# Altium footprint library jetson-orin-baseboard.PcbLib: 71 footprints (part 2 of 5)
Each footprint in its own frame and in the unit in brackets; x right, y up, seen from the top. Pads: shape width x height; smd on the part's side, far side on the other; paste and mask are expansions set on the pad; w line width, h text height; cw(c..) or ccw(c..) is an arc to the next point about the centre after c.
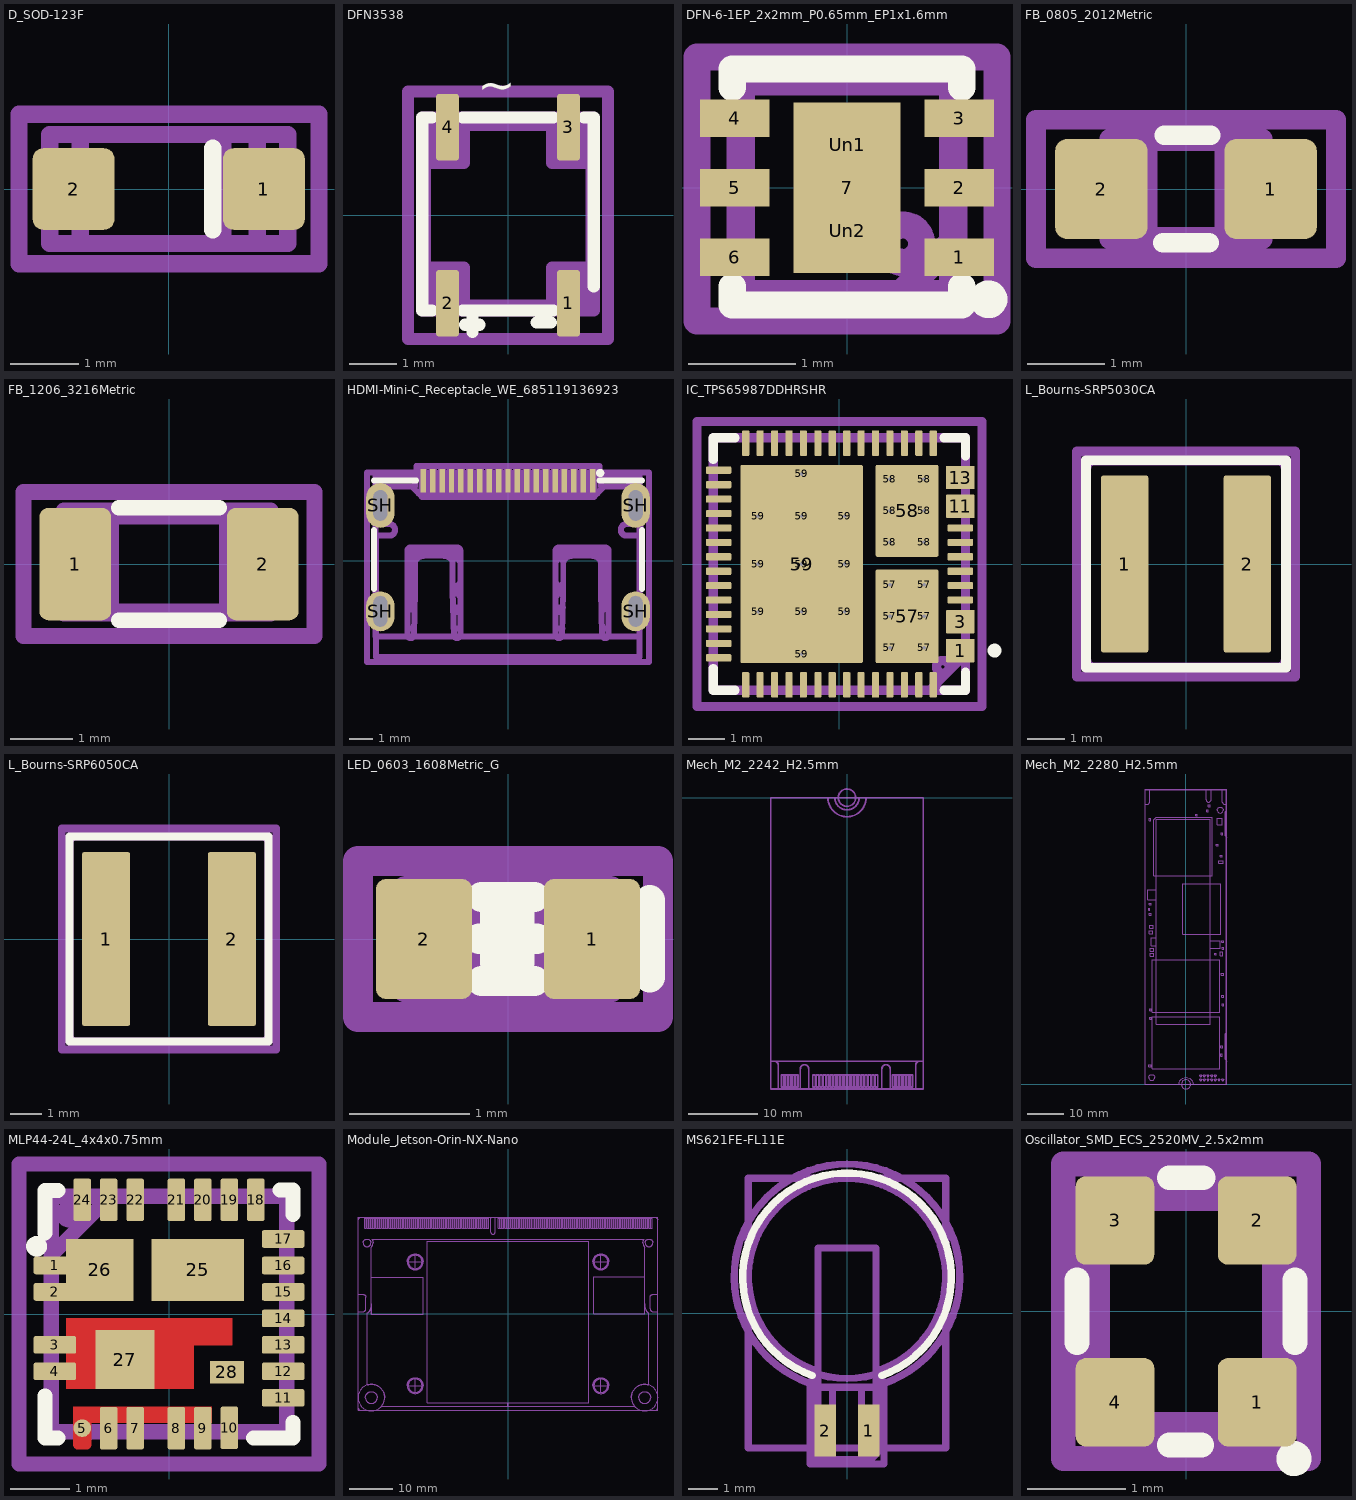
[diagram p1: the footprints below, top view; thin cyan lines are the x and y axes]

## D_SOD-123F [mm]
pads (2):
  rrect25% 1.2x1.2 smd mask+0: 1(1.401,0) 2(-1.398,0)
Top Overlay:
  lines w0.254: 0.65,-0.6 0.65,0.6
Mechanical 1:
  lines w0.254: -1.3,-0.327 -1.3,-0.726 -1.3,-0.729 -1.3,-0.733 -1.298,-0.736 -1.298,-0.74 -1.298,-0.743 -1.296,-0.747 -1.296,-0.75 -1.294,-0.754 -1.292,-0.757 -1.29,-0.76 -1.288,-0.763 -1.286,-0.767 -1.284,-0.771 -1.282,-0.774 -1.28,-0.777 -1.277,-0.779 -1.275,-0.782 -1.271,-0.784 -1.269,-0.787 -1.265,-0.789 -1.261,-0.791 -1.259,-0.793 -1.255,-0.795 -1.253,-0.796 -1.249,-0.798 -1.245,-0.799 -1.241,-0.8 -1.239,-0.801 -1.235,-0.801 -1.231,-0.802 -1.227,-0.802 -1.225,-0.802 1.226,-0.802 1.23,-0.802 1.234,-0.802 1.236,-0.801 1.24,-0.801 1.244,-0.8 1.248,-0.799 1.25,-0.798 1.254,-0.796 1.258,-0.795 1.26,-0.793 1.264,-0.791 1.268,-0.789 1.27,-0.787 1.274,-0.784 1.276,-0.782 1.278,-0.779 1.281,-0.777 1.283,-0.774 1.287,-0.771 1.289,-0.767 1.291,-0.763 1.293,-0.76 1.295,-0.757 1.295,-0.754 1.297,-0.75 1.299,-0.747 1.299,-0.743 1.301,-0.74 1.301,-0.736 1.301,-0.733 1.301,-0.729 1.301,-0.726 1.301,-0.327 ; -1.3,0.325 -1.3,0.724 -1.3,0.727 -1.3,0.731 -1.298,0.734 -1.298,0.738 -1.298,0.741 -1.296,0.745 -1.296,0.748 -1.294,0.752 -1.292,0.755 -1.29,0.758 -1.288,0.761 -1.286,0.765 -1.284,0.769 -1.282,0.772 -1.28,0.775 -1.277,0.777 -1.275,0.78 -1.271,0.782 -1.269,0.785 -1.265,0.787 -1.261,0.789 -1.259,0.791 -1.255,0.793 -1.253,0.794 -1.249,0.796 -1.245,0.797 -1.241,0.798 -1.239,0.799 -1.235,0.799 -1.231,0.8 -1.227,0.8 -1.225,0.8 1.226,0.8 1.23,0.8 1.234,0.8 1.236,0.799 1.24,0.799 1.244,0.798 1.248,0.797 1.25,0.796 1.254,0.794 1.258,0.793 1.26,0.791 1.264,0.789 1.268,0.787 1.27,0.785 1.274,0.782 1.276,0.78 1.278,0.777 1.281,0.775 1.283,0.772 1.287,0.769 1.289,0.765 1.291,0.761 1.293,0.758 1.295,0.755 1.295,0.752 1.297,0.748 1.299,0.745 1.299,0.741 1.301,0.738 1.301,0.734 1.301,0.731 1.301,0.727 1.301,0.724 1.301,0.325 ; -1.749,-0.327 -1.749,0.325 -1.282,0.325 -1.282,-0.327 -1.749,-0.327 ; 1.283,-0.327 1.283,0.325 1.75,0.325 1.75,-0.327 1.283,-0.327
Mechanical 5:
  lines w0.254: -1.749,-0.802 -1.749,0.8 1.75,0.8 1.75,-0.802 -1.749,-0.802
Mechanical 11:
  lines w0.254: 0.8,-0.8 0.8,0.8 ; -1.749,-0.802 -1.749,0.8 1.75,0.8 1.75,-0.802 -1.749,-0.802
  text "Author: Antmicro" at 2.052,5.515 h0.7
  text "License: Apache-2.0" at 2.052,6.833 h0.7
  text "'.Designator'" at 2.052,4.298 h0.7
Mechanical 16:
  lines w0.254: -2.2,-1.1 -2.2,1.1 2.21,1.1 2.21,-1.1 -2.2,-1.1

## DFN3538 [mm]
pads (4):
  rrect25% 0.48x1.4 smd mask+0: 1(1.27,-1.85) 2(-1.27,-1.85) 3(1.27,1.85) 4(-1.27,1.85)
Top Overlay:
  lines w0.254: -1.6,-2 -1.8,-2 -1.8,2.05 -1.6,2.05 ; -0.95,-2 0.95,-2 ; -0.95,2.05 0.95,2.05 ; -0.9,-2.301 -0.598,-2.301 ; -0.748,-2.452 -0.748,-2.15 ; 0.6,-2.25 0.902,-2.25 ; 1.6,2.05 1.8,2.05 1.8,-1.5
  text "~" at 0.16,3 h0.7
Mechanical 1:
  drawing of 284 lines, arcs and shapes, not listed
Mechanical 5:
  lines w0.254: -1.75,-1.9 -1.75,1.9 1.75,1.9 1.75,-1.9 -1.75,-1.9
Mechanical 11:
  lines w0.254: 1.051,-2 1.801,-1.25 ; -1.8,-2 -1.8,2.048 1.8,2.048 1.8,-2 -1.8,-2
  text "'.Designator'" at 1.95,5.099 h0.7
  text "License: Apache-2.0" at 1.95,7.232 h0.7
  text "Author: Antmicro" at 1.95,6.116 h0.7
Mechanical 16:
  lines w0.254: -2.1,-2.6 -2.1,2.6 2.1,2.6 2.1,-2.6 -2.1,-2.6

## DFN-6-1EP_2x2mm_P0.65mm_EP1x1.6mm [mm]
pads (9):
  rect 0.65x0.35 smd mask+0: 1(1.051,-0.652) 2(1.051,0) 3(1.051,0.65) 4(-1.05,0.65) 5(-1.05,0) 6(-1.05,-0.652)
  rect 1x1.6 smd paste-1.6 mask+0: 7(0,0)
  rect 0.82x0.63 on Top Paste mask-0.82: Un1(0,0.4) Un2(0,-0.402)
Top Overlay:
  circle w0.254: c1.325,-1.046 r0.05
  region: 1.287,-1.007 1.271,-1.046 1.287,-1.084 1.325,-1.1 1.363,-1.084 1.379,-1.046 1.363,-1.007 1.325,-0.992
  lines w0.254: -1.075,-0.925 -1.075,-1.1 1.075,-1.1 1.075,-0.925 ; -1.075,0.937 -1.075,1.112 1.075,1.112 1.075,0.937
Mechanical 1:
  circle w0.254: c0.525,-0.525 r0.175
  lines w0.254: -0.988,-0.802 -0.998,-0.802 -0.998,-0.5 -0.988,-0.5 ; -0.988,-0.15 -0.998,-0.15 -0.998,0.148 -0.988,0.148 ; -0.988,0.498 -0.998,0.498 -0.998,0.8 -0.988,0.8 ; 0.99,-0.802 1,-0.802 1,-0.5 0.99,-0.5 ; 0.99,-0.15 1,-0.15 1,0.148 0.99,0.148 ; 0.99,0.498 1,0.498 1,0.8 0.99,0.8 ; -0.988,-0.99 -0.988,0.988 0.99,0.988 0.99,-0.99 -0.988,-0.99
Mechanical 5:
  lines w0.254: -1,-1 -1,1 1,1 1,-1 -1,-1
Mechanical 11:
  lines w0.254: 0.5,-1 1,-0.5 ; -1,-1 -1,1 1,1 1,-1 -1,-1
  text "License: Apache-2.0" at 1.555,5.166 h0.7
  text "'.Designator'" at 1.555,2.9 h0.7
  text "Author: Antmicro" at 1.555,4.083 h0.7
Mechanical 16:
  lines w0.254: -1.405,-1.25 -1.405,1.225 1.405,1.225 1.405,-1.25 -1.405,-1.25

## FB_0805_2012Metric [mm]
pads (2):
  rrect25% 1.2x1.3 smd mask+0: 1(1.1,0) 2(-1.1,0)
Top Overlay:
  lines w0.254: -0.299,-0.698 0.299,-0.698 ; -0.281,0.698 0.319,0.698
Mechanical 1:
  lines w0.254: -0.499,-0.624 0.499,-0.624 ; -0.499,0.624 0.499,0.624 ; -0.999,-0.656 -0.999,0.656 -0.499,0.656 -0.499,-0.656 -0.999,-0.656 ; 0.499,-0.656 0.499,0.656 0.999,0.656 0.999,-0.656 0.499,-0.656
Mechanical 5:
  lines w0.254: -0.999,-0.656 -0.999,0.656 0.999,0.656 0.999,-0.656 -0.999,-0.656
Mechanical 11:
  lines w0.254: -0.948,-0.681 0.948,-0.681 ; -0.948,-0.676 -0.948,0.676 ; -0.948,0.681 0.948,0.681 ; 0.948,-0.676 0.948,0.676
  text "License: Apache-2.0" at 1.75,6.383 h0.7
  text "Author: Antmicro" at 1.75,4.917 h0.7
  text "'.Designator'" at 1.75,3.6 h0.7
Mechanical 16:
  lines w0.254: -1.95,-0.9 -1.95,0.9 1.95,0.9 1.95,-0.9 -1.95,-0.9

## FB_1206_3216Metric [mm]
pads (2):
  rrect25% 1.15x1.8 smd mask+0: 1(-1.5,-0.001) 2(1.5,-0.001)
Top Overlay:
  lines w0.254: -0.8,-0.901 0.8,-0.901 ; -0.8,0.899 0.8,0.899
Mechanical 1:
  drawing of 541 lines, arcs and shapes, not listed
Mechanical 5:
  lines w0.254: -1.589,-0.761 -1.589,0.762 1.588,0.762 1.588,-0.761 -1.589,-0.761
Mechanical 10:
  lines w0.254: -1.677,-0.792 -1.677,0.861 1.624,0.861 1.624,-0.792 -1.677,-0.792
  text "License: Apache-2.0" at -2.1,-5.833 h0.7
  text "'.Designator'" at -2.1,-4.5 h0.7
  text "Author: Antmicro" at -2.1,-6.917 h0.7
Mechanical 15:
  lines w0.254: -2.325,-1.15 -2.325,1.15 2.325,1.15 2.325,-1.15 -2.325,-1.15

## HDMI-Mini-C_Receptacle_WE_685119136923 [mm]
pads (23):
  rect 0.23x1 smd mask+0: 1(3.6,3.4) 2(3.2,3.4) 3(2.798,3.4) 4(2.398,3.4) 5(1.999,3.4) 6(1.6,3.4) 7(1.199,3.4) 8(0.8,3.4) 9(0.4,3.4) 10(0,3.4) 11(-0.402,3.4) 12(-0.802,3.4) 13(-1.2,3.4) 14(-1.601,3.4) 15(-2,3.4) 16(-2.4,3.4) 17(-2.801,3.4) 18(-3.202,3.4) 19(-3.601,3.4)
  rrect100% 1.2x1.7 hole 1.3 slot 0.6 at 0 deg paste-2539.97 mask+0: SH(-5.425,-2.15) SH(5.424,-2.15)
  rrect100% 1.2x1.9 hole 1.3 slot 0.6 at 0 deg paste-2539.97 mask+0: SH(-5.425,2.35) SH(5.424,2.35)
Top Overlay:
  circle w0.254: c3.915,3.725 r0.049
  region: 3.952,3.763 3.968,3.725 3.952,3.688 3.915,3.672 3.877,3.688 3.862,3.725 3.877,3.763 3.915,3.778
  lines w0.254: -5.702,-1.2 -5.702,1.301 ; -5.702,3.4 -3.9,3.4 ; 3.898,3.4 5.7,3.4 ; 5.7,-1.2 5.7,1.301
Mechanical 1:
  drawing of 1172 lines, arcs and shapes, not listed
Mechanical 10:
  lines w0.254: 4.877,3.579 5.588,2.919 ; -5.639,-3.228 -5.639,3.579 5.588,3.579 5.588,-3.228 -5.639,-3.228
  text "Author: Antmicro" at -6.275,-14.057 h0.7
  text "'.Designator'" at -6.275,-12.84 h0.7
  text "License: Apache-2.0" at -6.275,-11.773 h0.7
Mechanical 15:
  lines w0.254: 3.89,3.75 3.89,4.019 -3.9,4.019 -3.9,3.75 -6,3.75 -6,-4.3 6,-4.3 6,3.75 3.9,3.75

## IC_TPS65987DDHRSHR [mm]
pads (78):
  rrect9% 0.8x0.65 smd paste-0.8 mask-0.8: 1(3.351,-2.4) 3(3.351,-1.601) 11(3.351,1.6) 13(3.351,2.398)
  rrect25% 0.7x0.2 smd mask+0: 5(3.351,-1) 6(3.351,-0.6) 7(3.351,-0.202) 8(3.351,0.2) 9(3.351,0.598) 10(3.351,0.998) 29(-3.35,2.6) 30(-3.35,2.2) 31(-3.35,1.8) 32(-3.35,1.398) 33(-3.35,0.998) 34(-3.35,0.598) 35(-3.35,0.2) 36(-3.35,-0.202) 37(-3.35,-0.6) 38(-3.35,-1) 39(-3.35,-1.401) 40(-3.35,-1.801) 41(-3.35,-2.202) 42(-3.35,-2.601)
  rrect25% 0.2x0.7 smd mask+0: 15(2.601,3.35) 16(2.202,3.35) 17(1.801,3.35) 18(1.401,3.35) 19(1,3.35) 20(0.6,3.35) 21(0.202,3.35) 22(-0.2,3.35) 23(-0.598,3.35) 24(-0.998,3.35) 25(-1.398,3.35) 26(-1.8,3.35) 27(-2.2,3.35) 28(-2.6,3.35) 43(-2.6,-3.351) 44(-2.2,-3.351) 45(-1.8,-3.351) 46(-1.398,-3.351) 47(-0.998,-3.351) 48(-0.598,-3.351) 49(-0.2,-3.351) 50(0.202,-3.351) 51(0.6,-3.351) 52(1,-3.351) 53(1.401,-3.351) 54(1.801,-3.351) 55(2.202,-3.351) 56(2.601,-3.351)
  round 0.45 hole 0.1 paste-2539.97 mask-0.45: 57(1.401,-2.327) 57(1.401,-1.45) 57(1.401,-0.577) 57(2.351,-2.327) 57(2.351,-1.45) 57(2.351,-0.576) 58(1.401,0.598) 58(1.401,1.475) 58(1.401,2.349) 58(2.351,0.598) 58(2.351,1.475) 58(2.351,2.35) 59(-2.248,-1.327) 59(-2.248,-0.001) 59(-2.248,1.322) 59(-1.05,0) 59(-1.048,-2.504) 59(-1.048,-1.327) 59(-1.048,1.322) 59(-1.048,2.496) 59(0.15,-1.321) 59(0.15,0) 59(0.152,1.322)
  rrect6% 1.75x2.6 smd paste-2.6 mask+0.05: 57(1.875,-1.45)
  rrect6% 1.75x2.55 smd paste-2.55 mask+0.05: 58(1.875,1.475)
  rrect3% 3.4x5.5 smd paste-5.5 mask+0.05: 59(-1.05,0)
Top Overlay:
  circle w0.254: c4.3,-2.4 r0.064
  region: 4.251,-2.351 4.248,-2.358 4.231,-2.4 4.251,-2.449 4.258,-2.452 4.3,-2.469 4.349,-2.449 4.352,-2.442 4.369,-2.4 4.349,-2.351 4.342,-2.348 4.3,-2.331
  lines w0.254: -3.499,-2.9 -3.499,-3.5 -2.898,-3.5 ; -3.499,2.898 -3.499,3.499 -2.898,3.499 ; 2.9,-3.5 3.5,-3.5 3.5,-3 ; 2.9,3.499 3.5,3.499 3.5,2.999
Top Paste:
  drawing of 16 lines, arcs and shapes, not listed
Top Solder:
  drawing of 4 lines, arcs and shapes, not listed
Mechanical 1:
  drawing of 260 lines, arcs and shapes, not listed
Mechanical 5:
  lines w0.254: -3.499,-3.5 -3.499,3.499 3.5,3.499 3.5,-3.5 -3.499,-3.5
Mechanical 11:
  lines w0.254: -3.499,-3.5 -3.499,3.499 3.5,3.499 3.5,-2.5 2.5,-3.5 -3.499,-3.5
  text "License: Apache-2.0" at 4.251,9.712 h0.7
  text "Author: Antmicro" at 4.251,8.596 h0.7
  text "'.Designator'" at 4.251,7.578 h0.7
Mechanical 16:
  lines w0.254: -3.95,-3.95 -3.95,3.95 3.95,3.95 3.95,-3.95 -3.95,-3.95

## L_Bourns-SRP5030CA [mm]
pads (2):
  rrect10% 1.25x4.7 smd mask+0: 1(-1.625,0) 2(1.625,0)
Top Overlay:
  lines w0.254: -2.65,-2.75 2.65,-2.75 2.65,2.75 -2.65,2.75 -2.65,-2.75
Mechanical 1:
  lines w0.254: -2.44,-2.74 2.44,-2.74 ; -2.44,-2.74 2.44,-2.74 ; -2.44,-2.74 -2.449,-2.739 -2.459,-2.739 -2.469,-2.737 -2.479,-2.736 -2.488,-2.733 -2.498,-2.731 -2.507,-2.728 -2.516,-2.724 -2.525,-2.72 -2.534,-2.716 -2.542,-2.711 -2.55,-2.706 -2.558,-2.7 -2.566,-2.694 -2.574,-2.688 -2.581,-2.681 -2.588,-2.674 -2.594,-2.666 -2.6,-2.658 -2.606,-2.65 -2.611,-2.642 -2.616,-2.634 -2.62,-2.625 -2.624,-2.616 -2.628,-2.607 -2.631,-2.598 -2.633,-2.588 -2.636,-2.579 -2.637,-2.569 -2.639,-2.559 -2.639,-2.549 -2.64,-2.54 -2.64,2.54 -2.639,2.549 -2.639,2.559 -2.637,2.569 -2.636,2.579 -2.633,2.588 -2.631,2.598 -2.628,2.607 -2.624,2.616 -2.62,2.625 -2.616,2.634 -2.611,2.642 -2.606,2.65 -2.6,2.658 -2.594,2.666 -2.588,2.674 -2.581,2.681 -2.574,2.688 -2.566,2.694 -2.558,2.7 -2.55,2.706 -2.542,2.711 -2.534,2.716 -2.525,2.72 -2.516,2.724 -2.507,2.728 -2.498,2.731 -2.488,2.733 -2.479,2.736 -2.469,2.737 -2.459,2.739 -2.449,2.739 -2.44,2.74 ; -2.44,2.74 2.44,2.74 ; -2.44,2.74 2.44,2.74 ; 2.44,-2.74 2.449,-2.739 2.459,-2.739 2.469,-2.737 2.479,-2.736 2.488,-2.733 2.498,-2.731 2.507,-2.728 2.516,-2.724 2.525,-2.72 2.534,-2.716 2.542,-2.711 2.55,-2.706 2.558,-2.7 2.566,-2.694 2.574,-2.688 2.581,-2.681 2.588,-2.674 2.594,-2.666 2.6,-2.658 2.606,-2.65 2.611,-2.642 2.616,-2.634 2.62,-2.625 2.624,-2.616 2.628,-2.607 2.631,-2.598 2.633,-2.588 2.636,-2.579 2.637,-2.569 2.639,-2.559 2.639,-2.549 2.64,-2.54 2.64,2.54 2.639,2.549 2.639,2.559 2.637,2.569 2.636,2.579 2.633,2.588 2.631,2.598 2.628,2.607 2.624,2.616 2.62,2.625 2.616,2.634 2.611,2.642 2.606,2.65 2.6,2.658 2.594,2.666 2.588,2.674 2.581,2.681 2.574,2.688 2.566,2.694 2.558,2.7 2.55,2.706 2.542,2.711 2.534,2.716 2.525,2.72 2.516,2.724 2.507,2.728 2.498,2.731 2.488,2.733 2.479,2.736 2.469,2.737 2.459,2.739 2.449,2.739 2.44,2.74 ; -1.865,-2.024 -1.665,-2.024 -1.665,1.974 -1.865,1.974 -1.865,-2.024
Mechanical 5:
  lines w0.254: -2.64,-2.74 -2.64,2.74 2.64,2.74 2.64,-2.74 -2.64,-2.74
Mechanical 10:
  lines w0.254: -2.65,-2.75 2.65,-2.75 2.65,2.75 -2.65,2.75 -2.65,-2.75
  text "'.Designator'" at -1.947,-8.141 h0.7
  text "Author: Antmicro" at 5.395,-6.924 h0.7
  text "License: Apache-2.0" at 7.225,-5.608 h0.7
Mechanical 15:
  lines w0.254: -2.89,-2.99 -2.89,2.99 2.89,2.99 2.89,-2.99 -2.89,-2.99

## L_Bourns-SRP6050CA [mm]
pads (2):
  rrect10% 1.55x5.6 smd mask+0: 1(-2.025,0) 2(2.025,0)
Top Overlay:
  lines w0.254: -3.2,-3.298 3.2,-3.298 3.2,3.301 -3.2,3.301 -3.2,-3.298
Mechanical 1:
  lines w0.254: -3.202,-3.1 -3.201,-3.108 -3.201,-3.119 -3.198,-3.128 -3.197,-3.139 -3.194,-3.148 -3.193,-3.157 -3.189,-3.167 -3.185,-3.176 -3.181,-3.184 -3.177,-3.193 -3.173,-3.201 -3.168,-3.209 -3.161,-3.217 -3.156,-3.225 -3.149,-3.233 -3.142,-3.241 -3.136,-3.248 -3.128,-3.253 -3.12,-3.26 -3.112,-3.265 -3.104,-3.27 -3.096,-3.276 -3.086,-3.28 -3.077,-3.284 -3.068,-3.288 -3.06,-3.29 -3.049,-3.293 -3.04,-3.296 -3.031,-3.297 -3.02,-3.298 -3.011,-3.298 -3,-3.298 2.999,-3.298 3.008,-3.298 3.019,-3.298 3.028,-3.297 3.039,-3.296 3.047,-3.293 3.058,-3.29 3.067,-3.288 3.076,-3.284 3.084,-3.28 3.093,-3.276 3.101,-3.27 3.109,-3.265 3.117,-3.26 3.125,-3.253 3.133,-3.248 3.14,-3.241 3.148,-3.233 3.153,-3.225 3.16,-3.217 3.165,-3.209 3.171,-3.201 3.176,-3.193 3.18,-3.184 3.184,-3.176 3.188,-3.167 3.191,-3.157 3.192,-3.148 3.196,-3.139 3.196,-3.128 3.199,-3.119 3.199,-3.108 3.2,-3.1 3.2,3.101 3.199,3.11 3.199,3.121 3.196,3.13 3.196,3.141 3.192,3.149 3.191,3.16 3.188,3.169 3.184,3.177 3.18,3.186 3.176,3.196 3.171,3.203 3.165,3.211 3.16,3.219 3.153,3.227 3.148,3.235 3.14,3.242 3.133,3.25 3.125,3.255 3.117,3.262 3.109,3.267 3.101,3.273 3.093,3.278 3.084,3.282 3.076,3.286 3.067,3.29 3.058,3.293 3.047,3.294 3.039,3.298 3.028,3.298 3.019,3.301 3.008,3.301 2.999,3.301 -3,3.301 -3.011,3.301 -3.02,3.301 -3.031,3.298 -3.04,3.298 -3.049,3.294 -3.06,3.293 -3.068,3.29 -3.077,3.286 -3.086,3.282 -3.096,3.278 -3.104,3.273 -3.112,3.267 -3.12,3.262 -3.128,3.255 -3.136,3.25 -3.142,3.242 -3.149,3.235 -3.156,3.227 -3.161,3.219 -3.168,3.211 -3.173,3.203 -3.177,3.196 -3.181,3.186 -3.185,3.177 -3.189,3.169 -3.193,3.16 -3.194,3.149 -3.197,3.141 -3.198,3.13 -3.201,3.121 -3.201,3.11 -3.202,3.101 -3.202,-3.1
Mechanical 5:
  lines w0.254: -3.202,-3.298 -3.202,3.301 3.2,3.301 3.2,-3.298 -3.202,-3.298
Mechanical 10:
  lines w0.254: -3.202,-3.298 -3.202,3.301 3.2,3.301 3.2,-3.298 -3.202,-3.298
  text "License: Apache-2.0" at 6.665,-7.417 h0.7
  text "'.Designator'" at -2.174,-6.35 h0.7
  text "Author: Antmicro" at 4.835,-8.733 h0.7
Mechanical 15:
  lines w0.254: -3.45,-3.55 -3.45,3.55 3.45,3.55 3.45,-3.55 -3.45,-3.55

## LED_0603_1608Metric_G [mm]
pads (2):
  rrect20% 0.8x1 smd mask+0: 1(0.7,0) 2(-0.7,0)
Top Overlay:
  lines w0.254: -0.24,0.001 -0.105,0.001 ; -0.22,-0.35 0.22,-0.35 ; -0.22,0.35 0.22,0.35 ; 0.095,-0.199 0.095,0.201 ; 0.24,0.001 0.095,0.001 ; 1.18,-0.319 1.18,0.321 ; 0.095,0.001 -0.105,0.201 -0.105,-0.199 0.095,0.001
Mechanical 1:
  drawing of 280 lines, arcs and shapes, not listed
Mechanical 5:
  lines w0.254: -0.81,-0.4 -0.81,0.4 0.81,0.4 0.81,-0.4 -0.81,-0.4
Mechanical 11:
  lines w0.254: -0.599,0 -0.201,0 ; 0.199,-0.202 0.199,0.1 0.199,0.2 ; 0.199,0 0.597,0 ; -0.201,0 -0.201,0.2 0.101,0 -0.201,-0.202 -0.201,0 ; -0.848,-0.402 -0.848,0.4 0.85,0.4 0.85,-0.402 -0.848,-0.402
  text "'.Designator'" at 0.033,5.499 h0.7
  text "Author: Antmicro" at -6.863,4.282 h0.7
  text "License: Apache-2.0" at -8.692,2.966 h0.7
Mechanical 16:
  lines w0.254: -1.25,-0.65 -1.25,0.65 1.25,0.65 1.25,-0.65 -1.25,-0.65

## Mech_M2_2242_H2.5mm [mm]
Mechanical 1:
  drawing of 460 lines, arcs and shapes, not listed
Mechanical 5:
  lines w0.254: -11,-41.998 -11,0 10.999,0 10.999,-41.998 -11,-41.998
Mechanical 10:
  text "'.Designator'" at -11.15,-66.748 h0.7
  text "Author: Antmicro" at -11.15,-67.967 h0.7
  text "License: Apache-2.0" at -11.15,-69.283 h0.7
Mechanical41:
  circle w0.254: c-0.001,0 r1.249
  lines w0.254: -11,-42.001 -11,0 10.999,0 10.999,-42.001 -11,-42.001

## Mech_M2_2280_H2.5mm [mm]
Mechanical 1:
  drawing of 529 lines, arcs and shapes, not listed
Mechanical 5:
  lines w0.254: -11.076,0 -11.076,80.15 ; -11.076,0 11.077,0 ; -11.076,0 -11.076,80.15 ; -11.076,0 11.077,0 ; -11.076,80.15 11.077,80.15 ; -11.076,80.15 11.077,80.15 ; 11.077,0 11.077,80.15 ; 11.077,0 11.077,80.15
Mechanical 11:
  lines w0.254: -11.024,0.051 -11.024,80.061 10.922,80.061 10.922,0.051 -11.024,0.051
  text "License: Apache-2.0" at 12.093,85.025 h0.7
  text "Author: Antmicro" at 12.093,83.708 h0.7
  text "'.Designator'" at 12.093,82.491 h0.7
Mechanical41:
  circle w0.254: c0,0 r1.25
  lines w0.254: -10.999,0 11,0 11,80.001 -10.999,80.001 -10.999,0

## MLP44-24L_4x4x0.75mm [mm]
pads (28):
  rrect25% 0.725x0.3 smd mask+0: 1(-1.94,0.825) 2(-1.94,0.375) 3(-1.94,-0.525) 4(-1.94,-0.975) 11(1.94,-1.425) 12(1.94,-0.975) 13(1.94,-0.525) 14(1.94,-0.075) 15(1.94,0.375) 16(1.94,0.825) 17(1.94,1.275)
  round 0.3 smd mask+0: 5(-1.475,-1.94)
  rrect25% 0.3x0.725 smd mask+0: 6(-1.025,-1.94) 7(-0.575,-1.94) 8(0.125,-1.94) 9(0.575,-1.94) 10(1.025,-1.935) 18(1.475,1.94) 19(1.025,1.94) 20(0.575,1.94) 21(0.125,1.94) 22(-0.575,1.94) 23(-1.025,1.94) 24(-1.475,1.94)
  rect 1.575x1.05 smd mask+0: 25(0.49,0.75)
  rect 1.15x1.05 smd mask+0: 26(-1.175,0.75)
  rect 1x1 smd mask+0: 27(-0.75,-0.775)
  rect 0.58x0.38 smd mask+0: 28(0.985,-0.99)
Top Layer:
  region: -1.371,-1.583 -1.347,-1.599 -1.331,-1.624 -1.325,-1.653 -1.325,-2.228 -1.331,-2.256 -1.347,-2.281 -1.371,-2.297 -1.4,-2.303 -1.55,-2.303 -1.579,-2.297 -1.603,-2.281 -1.619,-2.256 -1.625,-2.228 -1.625,-1.653 -1.619,-1.624 -1.603,-1.599 -1.579,-1.583 -1.55,-1.578 -1.4,-1.578
  region: 0.725,-1.853 -1.625,-1.853 -1.625,-1.578 0.725,-1.578
  region: 1.075,-0.53 0.425,-0.53 0.425,-1.275 -1.75,-1.275 -1.75,-0.075 1.075,-0.075
Top Overlay:
  circle w0.254: c-2.25,1.15 r0.05
  region: -2.212,1.188 -2.196,1.15 -2.212,1.112 -2.25,1.096 -2.288,1.112 -2.304,1.15 -2.288,1.188 -2.25,1.204
  lines w0.254: -2.11,-1.39 -2.11,-2.11 -1.89,-2.11 ; -2.11,1.38 -2.11,2.1 -1.89,2.1 ; 1.44,-2.11 2.11,-2.11 2.11,-1.84 ; 1.89,2.11 2.11,2.11 2.11,1.69
Top Paste:
  region: -1.371,-1.583 -1.347,-1.599 -1.331,-1.624 -1.325,-1.653 -1.325,-2.228 -1.331,-2.256 -1.347,-2.281 -1.371,-2.297 -1.4,-2.303 -1.55,-2.303 -1.579,-2.297 -1.603,-2.281 -1.619,-2.256 -1.625,-2.228 -1.625,-1.653 -1.619,-1.624 -1.603,-1.599 -1.579,-1.583 -1.55,-1.578 -1.4,-1.578
  region: 0.725,-1.853 -1.625,-1.853 -1.625,-1.578 0.725,-1.578
  region: 1.075,-0.53 0.425,-0.53 0.425,-1.275 -1.75,-1.275 -1.75,-0.075 1.075,-0.075
Top Solder:
  region: -1.371,-1.583 -1.347,-1.599 -1.331,-1.624 -1.325,-1.653 -1.325,-2.228 -1.331,-2.256 -1.347,-2.281 -1.371,-2.297 -1.4,-2.303 -1.55,-2.303 -1.579,-2.297 -1.603,-2.281 -1.619,-2.256 -1.625,-2.228 -1.625,-1.653 -1.619,-1.624 -1.603,-1.599 -1.579,-1.583 -1.55,-1.578 -1.4,-1.578
  region: 0.725,-1.853 -1.625,-1.853 -1.625,-1.578 0.725,-1.578
  region: 1.075,-0.53 0.425,-0.53 0.425,-1.275 -1.75,-1.275 -1.75,-0.075 1.075,-0.075
Mechanical 1:
  lines w0.254: -2,-1.077 -2.01,-1.075 -2.01,-0.875 -2,-0.873 ; -2,-0.627 -2.01,-0.625 -2.01,-0.425 -2,-0.423 ; -2,0.273 -2.01,0.275 -2.01,0.475 -2,0.477 ; -2,0.723 -2.01,0.725 -2.01,0.925 -2,0.927 ; -1.577,-2 -1.575,-2.01 -1.375,-2.01 -1.373,-2 ; -1.577,2 -1.575,2.01 -1.375,2.01 -1.373,2 ; -1.127,-2 -1.125,-2.01 -0.925,-2.01 -0.923,-2 ; -1.127,2 -1.125,2.01 -0.925,2.01 -0.923,2 ; -0.677,-2 -0.675,-2.01 -0.475,-2.01 -0.473,-2 ; -0.677,2 -0.675,2.01 -0.475,2.01 -0.473,2 ; 0.023,-2 0.025,-2.01 0.225,-2.01 0.227,-2 ; 0.023,2 0.025,2.01 0.225,2.01 0.227,2 ; 0.473,-2 0.475,-2.01 0.675,-2.01 0.677,-2 ; 0.473,2 0.475,2.01 0.675,2.01 0.677,2 ; 0.923,-2 0.925,-2.01 1.125,-2.01 1.127,-2 ; 0.923,2 0.925,2.01 1.125,2.01 1.127,2 ; 1.373,2 1.375,2.01 1.575,2.01 1.577,2 ; 2,-1.527 2.01,-1.525 2.01,-1.325 2,-1.323 ; 2,-1.077 2.01,-1.075 2.01,-0.875 2,-0.873 ; 2,-0.627 2.01,-0.625 2.01,-0.425 2,-0.423 ; 2,-0.177 2.01,-0.175 2.01,0.025 2,0.027 ; 2,0.273 2.01,0.275 2.01,0.475 2,0.477 ; 2,0.723 2.01,0.725 2.01,0.925 2,0.927 ; 2,1.173 2.01,1.175 2.01,1.375 2,1.377 ; -2,-2 -2,2 2,2 2,-2 -2,-2 ; -1.799,1.686 -1.799,1.714 -1.792,1.74 -1.778,1.763 -1.758,1.782 -1.733,1.794 -1.707,1.8 -1.68,1.798 -1.654,1.789 -1.632,1.773 -1.615,1.752 -1.604,1.727 -1.6,1.7 -1.604,1.673 -1.615,1.648 -1.632,1.627 -1.654,1.611 -1.68,1.602 -1.707,1.6 -1.733,1.606 -1.758,1.618 -1.778,1.637 -1.792,1.66 -1.799,1.686
Mechanical 5:
  lines w0.254: -2.01,-2.01 -2.01,2.01 2.01,2.01 2.01,-2.01 -2.01,-2.01
Mechanical 10:
  lines w0.254: -2,-2 -2,1 -1,2 2,2 2,-2 -2,-2
  text "License: Apache-2.0" at -2.85,-6.233 h0.7
  text "License:" at -3.05,-6.117 h0.7
  text "Author: Antmicro" at -3.05,-8.517 h0.7
  text "'.Designator'" at -3.05,-7.3 h0.7
Mechanical 15:
  lines w0.254: -2.55,-2.55 -2.55,2.55 2.55,2.55 2.55,-2.55 -2.55,-2.55

## Module_Jetson-Orin-NX-Nano [mm]
Mechanical 1:
  drawing of 2728 lines, arcs and shapes, not listed
Mechanical 5:
  lines w0.254: -34.8,-22.5 -34.8,22.5 34.8,22.5 34.8,-22.5 -34.8,-22.5
Mechanical 10:
  text "'.Designator'" at -35.95,-26 h0.7
  text "Author: Antmicro" at -35.95,-27.217 h0.7
  text "License: Apache-2.0" at -35.95,-28.533 h0.7
Mechanical 18:
  circle w0.254: c-31.802,-19.498 r3.101
  circle w0.254: c31.798,-19.498 r3.101
Mechanical41:
  circle w0.254: c-21.6,12.1 r1.6
  circle w0.254: c-21.6,-16.7 r1.6
  circle w0.254: c21.6,12.1 r1.6
  circle w0.254: c21.6,-16.7 r1.6
  lines w0.254: -23.2,-16.7 -20,-16.7 ; -23.2,12.1 -20,12.1 ; -21.6,-18.3 -21.6,-15.1 ; -21.6,10.5 -21.6,13.7 ; 20,-16.7 23.2,-16.7 ; 20,12.1 23.2,12.1 ; 21.6,-18.3 21.6,-15.1 ; 21.6,10.5 21.6,13.7

## MS621FE-FL11E [mm]
pads (2):
  rect 0.75x1.8 smd mask+0: 1(0.75,-4.05) 2(-0.75,-4.05)
Top Overlay:
  lines w0.254: -1.2,-2.15 cw(c0,1.239) 1.2,-2.15
Mechanical 1:
  lines w0.254: -0.998,-2 -1.132,-1.956 -1.261,-1.909 -1.511,-1.797 -1.751,-1.666 -1.975,-1.518 -2.188,-1.353 -2.386,-1.174 -2.568,-0.978 -2.733,-0.771 -2.883,-0.551 -3.015,-0.319 -3.129,-0.077 -3.225,0.174 -3.3,0.432 -3.354,0.699 -3.387,0.971 -3.397,1.11 -3.398,1.249 -3.394,1.423 -3.382,1.596 -3.359,1.767 -3.33,1.935 -3.292,2.099 -3.246,2.261 -3.192,2.418 -3.132,2.572 -3.063,2.724 -2.988,2.87 -2.906,3.012 -2.818,3.149 -2.724,3.284 -2.623,3.411 -2.515,3.535 -2.403,3.653 -2.285,3.765 -2.161,3.873 -2.034,3.974 -1.9,4.068 -1.763,4.156 -1.62,4.238 -1.473,4.313 -1.322,4.381 -1.169,4.443 -1.011,4.496 -0.848,4.541 -0.685,4.579 -0.517,4.61 -0.347,4.631 -0.174,4.645 0.001,4.648 0.157,4.645 0.313,4.634 0.467,4.618 0.618,4.592 0.767,4.562 0.915,4.525 1.059,4.48 1.2,4.43 1.339,4.374 1.476,4.312 1.609,4.246 1.738,4.171 1.865,4.094 1.986,4.009 2.105,3.919 2.219,3.825 2.33,3.726 2.436,3.623 2.536,3.515 2.633,3.402 2.725,3.285 2.811,3.164 2.892,3.038 2.968,2.909 3.04,2.776 3.105,2.64 3.164,2.499 3.215,2.357 3.262,2.21 3.302,2.061 3.336,1.91 3.363,1.755 3.383,1.598 3.395,1.443 3.4,1.29 3.399,1.136 3.391,0.983 3.375,0.832 3.355,0.684 3.326,0.536 3.291,0.39 3.25,0.246 3.202,0.104 3.149,-0.035 3.09,-0.171 3.025,-0.303 2.956,-0.434 2.879,-0.562 2.798,-0.686 2.71,-0.806 2.618,-0.922 2.521,-1.033 2.419,-1.141 2.311,-1.246 2.201,-1.345 2.084,-1.44 1.962,-1.528 1.837,-1.613 1.708,-1.692 1.575,-1.766 1.436,-1.833 1.295,-1.895 1.149,-1.952 1.002,-2 ; -0.998,-2.552 1.002,-2.552 ; -0.998,-2.552 -0.998,-2.456 -0.998,-2.226 -0.998,2.249 1.002,2.249 1.002,-2.226 1.002,-2.456 1.002,-2.552 ; -0.998,-2.552 -0.498,-2.552 -0.498,-4.651 -0.998,-4.651 -0.998,-2.552 ; 1.002,-2.552 1.002,-4.651 0.501,-4.651 0.501,-2.552 1.002,-2.552
Mechanical 5:
  lines w0.254: -3.4,-4.65 -3.4,4.65 3.4,4.65 3.4,-4.65 -3.4,-4.65
Mechanical 11:
  circle w0.254: c0.001,1.25 r3.5
  lines w0.254: -1.2,-2.04 -1.2,-5.05 0.8,-5.05 1.2,-4.65 1.2,-2.04
  text "Author: Antmicro" at 3.351,9.917 h0.7
  text "'.Designator'" at 3.351,12.3 h0.7
  text "COPPER KEEPOUT" at -0.1,-3.24 h0.4
  text "License: Apache-2.0" at 3.351,8.833 h0.7
Mechanical 16:
  lines w0.254: -1.275,-5.2 1.275,-5.2 1.275,-2.425 ccw(c0,1.252) -1.275,-2.425 -1.275,-5.2

## Oscillator_SMD_ECS_2520MV_2.5x2mm [mm]
pads (4):
  rrect25% 0.8x0.9 smd mask+0: 1(0.725,-0.927) 2(0.725,0.925) 3(-0.723,0.925) 4(-0.723,-0.927)
Top Overlay:
  circle w0.254: c1.1,-1.5 r0.051
  region: 1.061,-1.461 1.045,-1.5 1.061,-1.539 1.1,-1.555 1.139,-1.539 1.155,-1.5 1.139,-1.461 1.1,-1.445
  lines w0.254: -1.11,-0.32 -1.11,0.32 ; -0.17,-1.361 0.16,-1.361 ; -0.17,1.36 0.172,1.36 ; 1.111,-0.32 1.111,0.32
Mechanical 1:
  drawing of 402 lines, arcs and shapes, not listed
Mechanical 5:
  lines w0.254: -0.998,-1.25 -0.998,1.249 1,1.249 1,-1.25 -0.998,-1.25
Mechanical 11:
  lines w0.254: 0.5,-1.25 1,-0.75 ; -1,-1.25 -1,1.249 1,1.249 1,-1.25 -1,-1.25
  text "'.Designator'" at 1.1,4.4 h0.7
  text "Author: Antmicro" at 1.1,5.619 h0.7
  text "License: Apache-2.0" at 1.1,6.935 h0.7
Mechanical 16:
  lines w0.254: -1.25,-1.5 -1.25,1.5 1.25,1.5 1.25,-1.5 -1.25,-1.5